# EAGLE library part LM73CIMK (library Zoli2_2015-01-28)
Digital temperature sensor
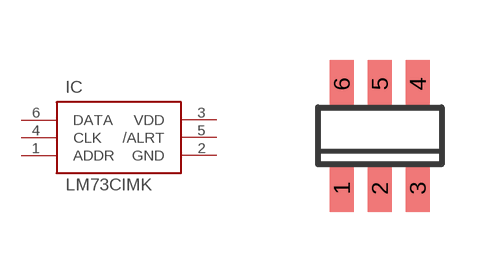
[diagram p39: symbol with the pads of SOT23-6; footprint SOT23-6]

Designator prefix IC

## LM73CIMK-0  [SOT23-6]
1  ADDR  pas
2  GND  pwr
3  VDD  pwr
4  CLK  in
5  /ALRT  out
6  DATA

## Footprint SOT23-6 (pad centres in mm)
smd 0.6 x 1.2: 1 -0.95,-1.306; 2 0,-1.306; 3 0.95,-1.306; 4 0.95,1.306; 5 0.003,1.306; 6 -0.95,1.306